# Altium footprint library OS102011MS2QN1.PcbLib: 1 footprints
Each footprint in its own frame and in the unit in brackets; x right, y up, seen from the top. Pads: shape width x height; smd on the part's side, far side on the other; paste and mask are expansions set on the pad; w line width, h text height; cw(c..) or ccw(c..) is an arc to the next point about the centre after c.
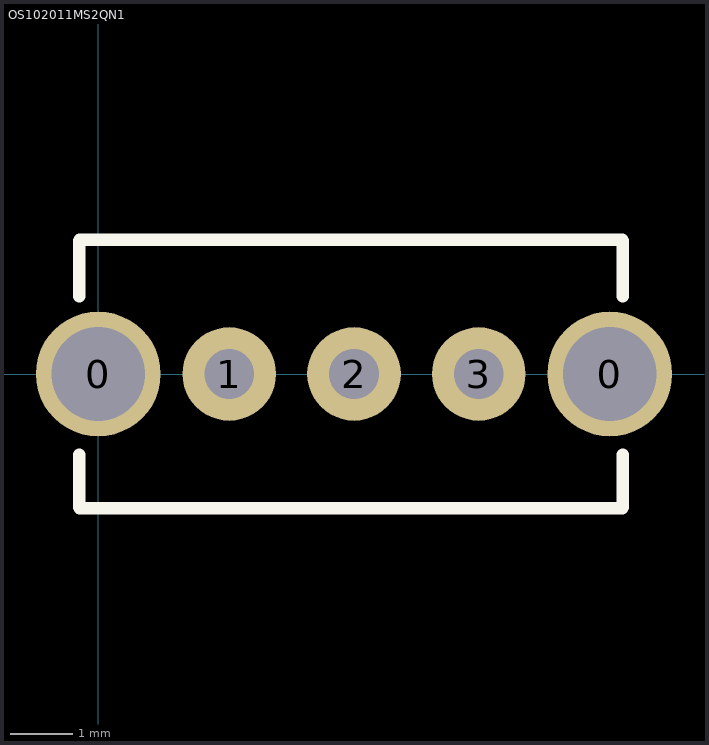
[diagram p0: the footprint, top view; thin cyan lines are the x and y axes]

## OS102011MS2QN1 [mm] "SPDT through hole switch"
pads (5):
  round 2 hole 1.5: 0(0,0) 0(8.2,0)
  round 1.5 hole 0.8: 1(2.1,0) 2(4.1,0) 3(6.1,0)
Top Overlay:
  lines w0.2: -0.305,-2.134 -0.305,-1.295 ; -0.305,1.245 -0.305,2.134 ; -0.3,-2.15 8.4,-2.15 ; -0.3,2.15 8.4,2.15 ; 8.407,-2.134 8.407,-1.295 ; 8.407,1.245 8.407,2.134